# Altium footprint library TSL260.PcbLib: 1 footprints
Each footprint in its own frame and in the unit in brackets; x right, y up, seen from the top. Pads: shape width x height; smd on the part's side, far side on the other; paste and mask are expansions set on the pad; w line width, h text height; cw(c..) or ccw(c..) is an arc to the next point about the centre after c.
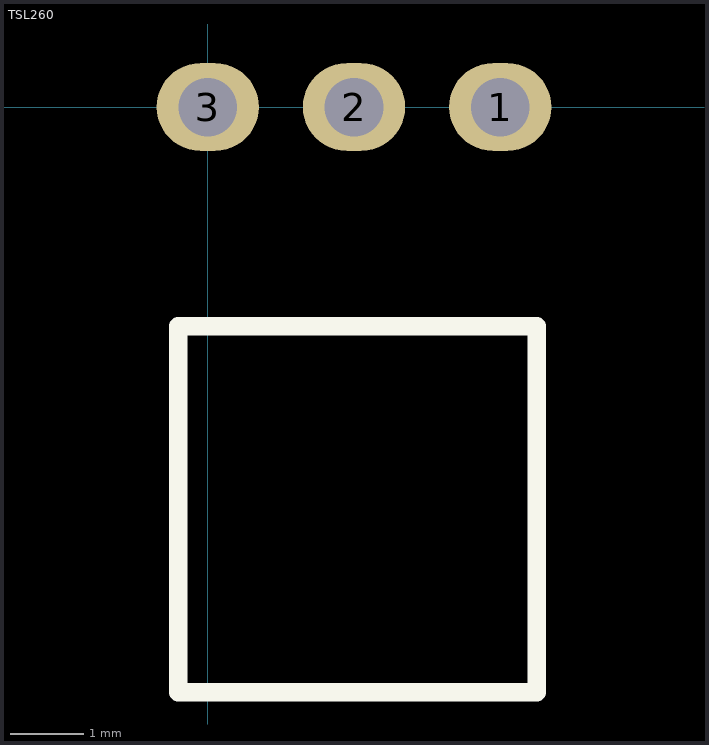
[diagram p0: the footprint, top view; thin cyan lines are the x and y axes]

## TSL260 [mm] "TSL260R light to voltage converter"
pads (3):
  oval 1.4x1.2 hole 0.8: 1(4,0) 2(2,0) 3(0,0)
Top Overlay:
  lines w0.254: -0.4,-8 -0.4,-3 4.5,-3 4.5,-8 -0.4,-8